# Altium schematic symbol library TPS22975DSGR.Schlib: 1 symbol
Pins are listed as number, name and electrical type; pins without a type are passive.

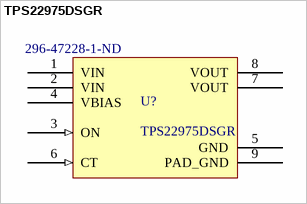
[diagram p0: symbol TPS22975DSGR]

## TPS22975DSGR
designator U?  Supplier Part Number 1: 296-47228-1-ND
IC LOAD SWITCH N-CH 6A 8WSON; Supplier 1: Digi-Key; ComponentLink1Description: Datasheet; ComponentLink1URL: http://www.ti.com/general/docs/suppproductinfo.tsp?distId=10&gotoUrl=http%3A%2F%2Fwww.ti.com%2Flit%2Fgpn%2Ftps22975
footprint DSG0008A
pins: 1 VIN (power), 2 VIN (power), 3 ON (in), 4 VBIAS (power), 5 GND (power), 6 CT (in), 7 VOUT (power), 8 VOUT (power), 9 PAD_GND (power)